# Altium schematic symbol library POT.SCHLIB: 45 symbols
Pins are listed as number, name and electrical type; pins without a type are passive.

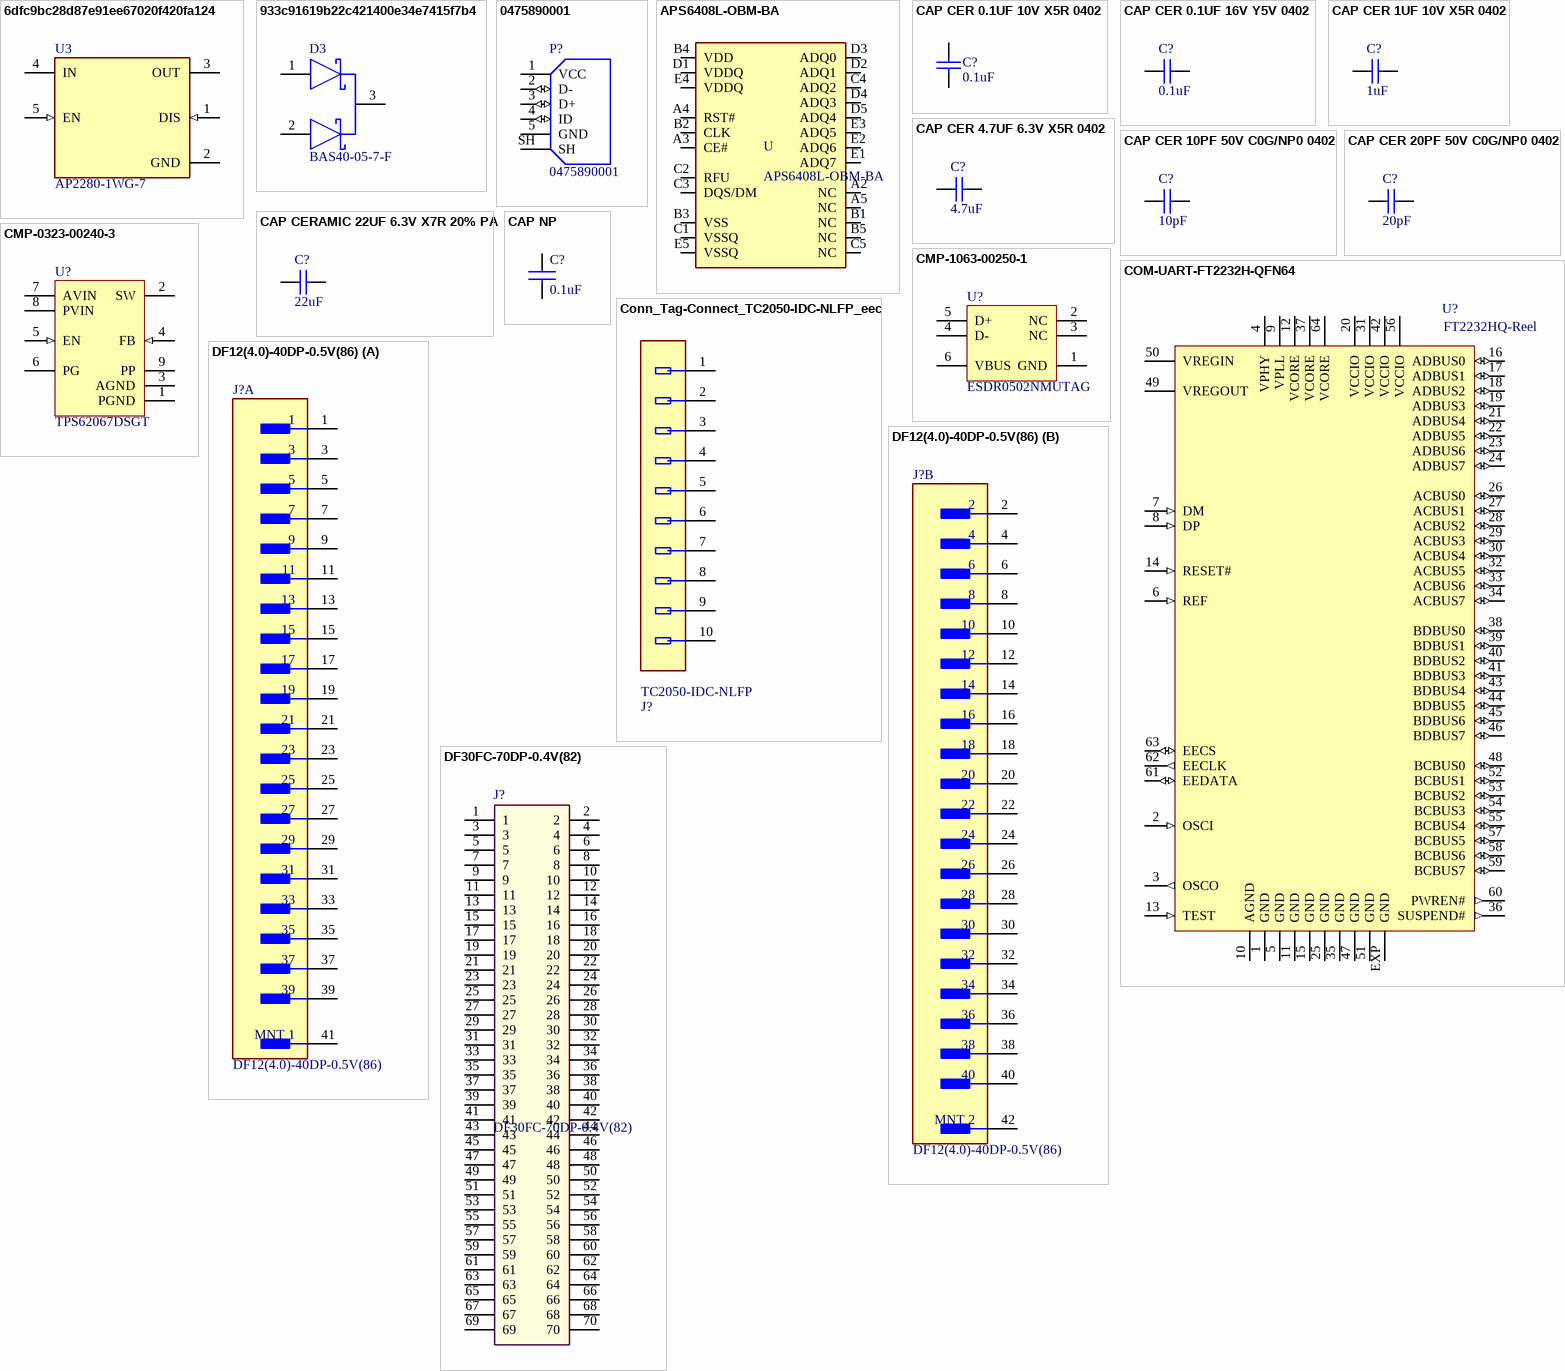
[diagram p0: symbols 6dfc9bc28d87e91ee67020f420fa124 to DF30FC-70DP-0.4V(82)]

## 6dfc9bc28d87e91ee67020f420fa124
designator U3, comment AP2280-1WG-7
IC PWR SWITCH P-CHAN 1:1 SOT25; Manufacturer: Diodes Inc.; Turn On Delay Time: 1us; Max Supply Voltage: 6V; Standoff Height: 0.013mm; Nominal Supply Current: 0.004uA; Min Supply Voltage: 1.5V; Number Of Outputs: 1; Max Junction Temp: +125°C; Turn Off Delay Time: 0.4us; On State Resistance: 80mΩ; Output Current: 2A; Max Power Dissipation: 750mW; Package: SOT25; Ambient Temperature Range Low: -40°C; Automotive: No; Temperature Range High: +85°C; Temperature Range Low: -40°C; Digikey Description: IC PWR SWITCH P-CHAN 1:1 SOT25; Ambient Temperature Range High: +85°C; Device Class L1: Integrated Circuits (ICs); ComponentLink2URL: https://www.diodes.com/assets/Datasheets/AP2280.pdf; Device Class L3: Hot Swap Controllers; Height: 1.4mm; Octopart: https://octopart.com/ap2280-1wg-7-diodes+inc.-12945742; ComponentLink2Description: Datasheet; Manufacturer Part Number: AP2280-1WG-7; Category: IC; Mouser Description: Power Switch ICs - Power Distribution Programmable Load Switch 1.5V - 6V; Temperature: -40°C to +85°C; RoHS: TRUE; Footprint Url: https://www.diodes.com/assets/Package-Files/SOT25.pdf; Device Class L2: Power Management ICs; Number Of Channels: 1; Lead Free: Yes
footprint FP-SOT25-MFG
footprint FP-SOT25-IPC_C
footprint FP-SOT25-IPC_B
footprint FP-SOT25-IPC_A
pins: 1 DIS (in), 2 GND (power), 3 OUT (power), 4 IN (power), 5 EN (in)

## 933c91619b22c421400e34e7415f7b4
designator D3, comment BAS40-05-7-F
DIODE ARRAY SCHOTTKY 40V SOT23-3; Manufacturer: Diodes Inc.; Max Surge Forward Current: 600mA; Max Junction Temp: +125°C; Capacitance: 4pF; Forward Current: 200mA; Peak Reverse Current: 0.02uA; Standoff Height: 0.013mm; Value: 4pF; Manufacturer Part Number: BAS40-05-7-F; Height: 1.1mm; Digikey Description: DIODE ARRAY SCHOTTKY 40V SOT23-3; Device Class L1: Discrete Semiconductors; Automotive: No; Temperature Range High: +125°C; Footprint Url: https://www.diodes.com/assets/Package-Files/SOT23.pdf; Device Class L3: Schottky Diodes; Category: Diode; Reverse Voltage: 40V; Temperature Range Low: -55°C; Mouser Description: Schottky Diodes & Rectifiers 40V 350mW; Max Repetitive Reverse Voltage: 40V; ComponentLink2Description: Datasheet; Temperature: -55°C to +125°C; ComponentLink2URL: https://www.diodes.com/assets/Datasheets/ds11006.pdf; RoHS: TRUE; Lead Free: Yes; Package: SOT23; Octopart: https://octopart.com/bas40-05-7-f-diodes+inc.-325986; Device Class L2: Diodes
footprint SOT-23
footprint FP-SOT23-IPC_C
footprint FP-SOT23-IPC_B
footprint FP-SOT23-IPC_A
pins: 1 1 ANODE, 2 2 ANODE, 3 COMMON CATHODE

## 0475890001
designator P?
Conn Micro USB Type AB RCP 5 POS 0.65mm Solder RA SMD 5 Terminal 1 Port T/R; Manufacturer: Molex; Part #: S-CONN-009; ManType: 0475890001; Availability: Unavailable
footprint *MOLEX_0475890001
footprint *MOLEX_0475890001
pins: 1 VCC (power), 2 D- (io), 3 D+ (io), 4 ID (io), 5 GND (power), SH (power)

## APS6408L-OBM-BA
designator U
Double-Data-Rate Octal SPI PSRAM; Manufacturer: APMEMORY; Value: APS6408L-OBM-BA; Manufacturer Part Number: APS6408L-OBM-BA
footprint BGA24C100P5X5_800X600X120N
pins: A2 NC, A3 CE#, A4 RST#, A5 NC, B1 NC, B2 CLK, B3 VSS, B4 VDD, B5 NC, C1 VSSQ, C2 RFU, C3 DQS/DM, C4 ADQ2, C5 NC, D1 VDDQ, D2 ADQ1, D3 ADQ0, D4 ADQ3, D5 ADQ4, E1 ADQ7, E2 ADQ6, E3 ADQ5, E4 VDDQ, E5 VSSQ

## CAP CER 0.1UF 10V X5R 0402
designator C?, comment 0.1uF
CAP CER 0.1UF 10V X5R 0402; Manufacturer Part Number: GRM155R61A104KA01J; Manufacturer: Murata Electronics; Part #: E-CAP-003; Supplier Part Number 1: 490-6297-1-ND; Package: 0402; Supplier 1: Digi-Key; Height: 0.55mm; value: 0.1uF
footprint C0402
footprint CAPC1005X55USR (Capacitor, Chip; 1.00 mm L X 0.50 mm W X 0.55 mm H body)
pins: 1, 2

## CAP CER 0.1UF 16V Y5V 0402
designator C?, comment 0.1uF
CAP CER 0.1UF 16V Y5V 0402; Manufacturer Part Number: CL05F104ZO5NNNC; Manufacturer: Samsung Electro-Mechanics; Part #: E-CAP-042; Supplier Part Number 1: 1276-1004-1-ND; Package: 0402; Height: 0.55mm; Supplier 1: Digi-Key; value: 0.1uF
footprint C0402
footprint CAPC1005X55USR (Capacitor, Chip; 1.00 mm L X 0.50 mm W X 0.55 mm H body)
footprint CAPC1005X55USR (Capacitor, Chip; 1.00 mm L X 0.50 mm W X 0.55 mm H body)
pins: 1, 2

## CAP CER 1UF 10V X5R 0402
designator C?, comment 1uF
CAP CER 1UF 10V X5R 0402; Manufacturer Part Number: CL05A105MP5NNNC; Manufacturer: Samsung Electro-Mechanics; Part #: E-CAP-042; Supplier Part Number 1: 1276-1448-1-ND; Package: 0402; value: 1uF; Supplier 1: Digi-Key; Height: 0.55mm; ComponentLink1Description: New link; ComponentLink1URL: *
footprint CAPC1005X55USR (Capacitor, Chip; 1.00 mm L X 0.50 mm W X 0.55 mm H body)
footprint CAPC100X50X60L25N
footprint CAPC1005X55USR (Capacitor, Chip; 1.00 mm L X 0.50 mm W X 0.55 mm H body)
pins: 1, 2

## CAP CER 4.7UF 6.3V X5R 0402
designator C?, comment 4.7uF
CAP CER 4.7UF 6.3V X5R 0402; Manufacturer Part Number: CL05A475KQ5NRNC; Manufacturer: Samsung Electro-Mechanics; Part #: E-CAP-042; Supplier Part Number 1: 1276-1481-1-ND; Package: 0402; value: 4.7uF; Supplier 1: Digi-Key; Height: 0.55mm; ComponentLink1Description: New link; ComponentLink1URL: *
footprint CAPC1005X55USR (Capacitor, Chip; 1.00 mm L X 0.50 mm W X 0.55 mm H body)
footprint CAPC100X50X60L25N
pins: 1, 2

## CAP CER 10PF 50V C0G/NP0 0402
designator C?, comment 10pF
CAP CER 10PF 50V C0G/NP0 0402; Manufacturer Part Number: GRM1555C1H100JA01D; Manufacturer: Murata Electronics; Part #: E-CAP-042; Supplier Part Number 1: 490-5921-1-ND; Package: 0402; Height: 0.55mm; Supplier 1: Digi-Key; value: 10pF
footprint C0402
footprint CAPC1005X55USR (Capacitor, Chip; 1.00 mm L X 0.50 mm W X 0.55 mm H body)
footprint CAPC1005X55USR (Capacitor, Chip; 1.00 mm L X 0.50 mm W X 0.55 mm H body)
pins: 1, 2

## CAP CER 20PF 50V C0G/NP0 0402
designator C?, comment 20pF
CAP CER 20PF 50V C0G/NP0 0402; Manufacturer Part Number: GRM1555C1H200JA01D; Manufacturer: Murata Electronics; Part #: E-CAP-042; Supplier Part Number 1: 490-5930-1-ND; Package: 0402; Height: 0.55mm; Supplier 1: Digi-Key; value: 20pF
footprint CAPC1005X55USR (Capacitor, Chip; 1.00 mm L X 0.50 mm W X 0.55 mm H body)
pins: 1, 2

## CAP CERAMIC 22UF 6.3V X7R 20% PA
designator C?, comment 22uF
CAP CERAMIC 22UF 6.3V X7R 20% PA; Manufacturer Part Number: GRM188R60G226M; Manufacturer: Murata Electronics; Package: 0603; value: 22uF; Supplier 1: Digi-Key; Height: 0.55mm; ComponentLink1Description: New link; ComponentLink1URL: *
footprint CAPC1005X55USR (Capacitor, Chip; 1.00 mm L X 0.50 mm W X 0.55 mm H body)
footprint CAPC100X50X60L25N
footprint CAPC1005X55USR (Capacitor, Chip; 1.00 mm L X 0.50 mm W X 0.55 mm H body)
pins: 1, 2

## CAP NP
designator C?, comment 0.1uF
CAP CER 0.1UF 6.3V X5R
footprint CAPC1608N
footprint CAPC1005N
footprint CAPC1005X60N
footprint C0603
pins: 1, 2

## CMP-0323-00240-3
designator U?, comment TPS62067DSGT
Buck Step Down Regulator with 2.9 to 6 V Input and 0.8 to 6 V Output, -40 to 85 degC, 8-Pin WSON (DSG), Green (RoHS & no Sb/Br); Manufacturer: Texas Instruments; Vout(Max)(V): 6; Synchronous Rectification: TRUE; Duty Cycle(Max)(%): 100; Iout(Max)(A): 2; Iq(Typ)(mA): 0.018; Switch Current Limit(Typ)(A): 2.75; SubFamily: Step-Down Regulator; Vin(Min)(V): 2.9; Vout(Min)(V): 0.8; Rating: Catalog; Regulated Outputs(#): 1; ComponentLink3Description: URL Link1; Eco-Plan: Green (RoHS & no Sb/Br); Topology: Buck; PackageVersion: revB, Oct-2010; PartNumber: TPS62067DSGT; ComponentLink1URL: http://www.ti.com/general/docs/lit/getliterature.tsp?genericPartNumber=TPS62067&fileType=pdf; ComponentLink3URL: Samples URL:http://www.ti.com/product/tps62067#samples; PackageDescription: 8-Pin Plastic Small Outline No-Lead, 2 x 2 x 0.8 mm Body, 0.5 mm Pitch, Exposed Pad; ComponentLink2URL: http://www.ti.com/litv/pdf/mpds308a; PackageReference: DSG0008A; ComponentLink2Description: Package Specification; ComponentLink1Description: Datasheet; Vin(Max)(V): 6; Code_JEDEC: MO-229; Mounting Technology: Surface Mount; DatasheetVersion: SLVS833A
footprint DSG0008A_V (SON, 8-Leads, Body 2x2mm, Pitch 0.5mm, Thermal Pad 1.6x0.9mm, TI Recommended)
pins: 1 PGND (power) "GND supply pin for the output stage.", 2 SW (power) "This is the switch pin and is connected to the internal MOSFET switches. Connect the external inductor between this terminal and the output capacitor.", 3 AGND (power) "Analog GND supply pin for the control circuit.", 4 FB (in) "Feedback pin for the internal regulation loop. Connect the external resistor divider to this pin. In case of fixed output voltage option, connect this pin directly to the output capacitor", 5 EN (in) "This is the enable pin of the device. Pulling this pin to low forces the device into shutdown mode. Pulling this pin to high enables the device. This pin must be terminated", 6 PG (oc) "MODE: MODE pin = high forces the device to operate in fixed frequency PWM mode. MODE pin = low enables the Power Save Mode with automatic transition from PFM mode to fixed frequency PWM mode. This pin must be terminated.", 7 AVIN (power) "Analog VIN power supply for the control circuit. Need to be connected to PVIN and input capacitor.", 8 PVIN (power) "VIN power supply pin for the output stage.", 9 PP (power) "For good thermal performance, this PAD must be soldered to the land pattern on the pcb. This PAD should be used as device GND."

## CMP-1063-00250-1
designator U?, comment ESDR0502NMUTAG
Ultra Low Capacitance ESD Protection Array for High Speed Data Line Protection, 6-Pin UDFN, Pb-Free, Tape and Reel; Manufacturer: On Semiconductor; C Max (pF): 0.6; PPK Max (W): 100; V(BR) Min (V): 6; IR Max (uA): 1; Number of Lines: 4; VRWM Max (V): 5.5; Direction: Unidirectional; ComponentLink2URL: http://www.onsemi.cn/pub_link/Collateral/ESDR0502N-D.PDF; PackageDescription: 6-Pin Small Outline No-Lead, Body 1.2 x 1 mm, Pitch 0.4 mm; DatasheetVersion: Rev. 4; Packing: Tape and Reel; ComponentLink3URL: http://www.onsemi.com/pub_link/Collateral/517AA.PDF; PackageReference: UDFN-6-517AA-01; ComponentLink1Description: Manufacturer URL; ComponentLink2Description: Datasheet; ComponentLink3Description: Package Specification; PackageVersion: Rev. D, 09/2010; ComponentLink1URL: http://www.onsemi.com/; PartNumber: ESDR0502NMUTAG; RoHS: Pb-Free; Mounting Technology: Surface Mount
footprint ONSC-UDFN-6-517AA-01_V (SON, 6-Leads, Body 1.2x1mm, Pitch 0.4mm)
pins: 1 GND (power), 2 NC, 3 NC, 4 D-, 5 D+, 6 VBUS (power)

## COM-UART-FT2232H-QFN64
designator U?, comment FT2232HQ-Reel
Dual High Speed USB To Multipurpose UART/FIFO IC, 64-pin QFN, Tape and Reel; Manufacturer: FTDI; ComponentLink2Description: Datasheet; RevisionNote: DatasheetVersion updated to 2.21 Jun-2012; ComponentLink2URL: http://www.ftdichip.com/Support/Documents/DataSheets/ICs/DS_FT2232H.pdf; PackageReference: QFN64_2; ComponentLink1Description: Manufacturer URL; PackageDescription: 64-Pin Quad Flat No-Lead, 9 x 9 mm Body, 0.5 mm Pitch, 4.35 x 4.35 mm Exposed Pad; PackageVersion: Jun-12; DatasheetVersion: ver 2.21, Jun-2012; PartNumber: FT2232HQ-Reel; ComponentLink1URL: http://www.ftdichip.com/
footprint QFN64_2_N (QFN, 64-Leads, Body 9x9mm, Pitch 0.5mm, Thermal Pad 4.5x4.5mm, IPC Medium Density)
footprint QFN64_2_M (QFN, 64-Leads, Body 9x9mm, Pitch 0.5mm, Thermal Pad 4.5x4.5mm, IPC Low Density)
footprint QFN64_2_L (QFN, 64-Leads, Body 9x9mm, Pitch 0.5mm, Thermal Pad 4.5x4.5mm, IPC High Density)
footprint QFN64-9X9_EXP (64-QFN, 9 mm x 9 mm, 0.5 mm pitch)
footprint QFN64-9X9_EXP (64-QFN, 9 mm x 9 mm, 0.5 mm pitch)
footprint QFN64-9X9_EXP-1 (64-QFN, 9 mm x 9 mm, 0.5 mm pitch)
pins: 1 GND (power), 2 OSCI (in), 3 OSCO (out), 4 VPHY (power), 5 GND (power), 6 REF (in), 7 DM (in), 8 DP (in), 9 VPLL (power), 10 AGND (power), 11 GND (power), 12 VCORE (power), 13 TEST (in), 14 RESET# (in), 15 GND (power), 16 ADBUS0 (io), 17 ADBUS1 (io), 18 ADBUS2 (io), 19 ADBUS3 (io), 20 VCCIO (power), 21 ADBUS4 (io), 22 ADBUS5 (io), 23 ADBUS6 (io), 24 ADBUS7 (io), 25 GND (power), 26 ACBUS0 (io), 27 ACBUS1 (io), 28 ACBUS2 (io), 29 ACBUS3 (io), 30 ACBUS4 (io), 31 VCCIO (power), 32 ACBUS5 (io), 33 ACBUS6 (io), 34 ACBUS7 (io), 35 GND (power), 36 SUSPEND# (out), 37 VCORE (power), 38 BDBUS0 (io), 39 BDBUS1 (io), 40 BDBUS2 (io), 41 BDBUS3 (io), 42 VCCIO (power), 43 BDBUS4 (io), 44 BDBUS5 (io), 45 BDBUS6 (io), 46 BDBUS7 (io), 47 GND (power), 48 BCBUS0 (io), 49 VREGOUT (power), 50 VREGIN (power), 51 GND (power), 52 BCBUS1 (io), 53 BCBUS2 (io), 54 BCBUS3 (io), 55 BCBUS4 (io), 56 VCCIO (power), 57 BCBUS5 (io), 58 BCBUS6 (io), 59 BCBUS7 (io), 60 PWREN# (out), 61 EEDATA (io), 62 EECLK (out), 63 EECS (io), 64 VCORE (power), EXP GND (power)

## Conn_Tag-Connect_TC2050-IDC-NLFP_eec
designator J?  Part Number: TC2050-IDC-NLFP
CONN CBL PLUG-OF-NAILS 10-PIN; Manufacturer: Tag-Connect; helpURL: https://upverter.com/upn/revision/c59a8fc979a72537/; ComponentLink2Description: Datasheet; Temperature: to; Package: CONN_SMT_12MM446_6MM731; Supplier 2: Mouser; Supplier 1: Digi-Key; ComponentLink1URL: https://upverter.com/upn/revision/c59a8fc979a72537/; Supplier Part Number 1: TC2050-IDC-NL-ND; ComponentLink1Description: Upverter; ComponentLink2URL: http://www.tag-connect.com/Materials/TC2050-IDC-NL%20Datasheet.pdf; RoHS: TRUE; Digikey Description: CONN CBL PLUG-OF-NAILS 10-PIN; Digikey Part Number: TC2050-IDC-NL-ND; Lead Free: yes
footprint Tag-Connect_TC2050-IDC-NLFP_0
pins: 1, 2, 3, 4, 5, 6, 7, 8, 9, 10

## DF12(4.0)-40DP-0.5V(86)
designator J?
CONN HDR 40POS SMD GOLD; Gender: Male; Mated Stacking Heights: 4mm; Max Voltage Rating (AC): 50V; Row Spacing: 2.45mm; Number of Positions: 40; Current Rating: 300mA; Contact Resistance: 50mR; Pitch: 0.5mm; Package Quantity: 1; Housing Material: Polyamide; Lead Free: Lead Free; Packaging: Tape and Reel; Radiation Hardening: No; Orientation: Straight; Insulation Material: Nylon; Contact Material: Copper; Stack Height: 4mm; Max Operating Temperature: 125°C; Voltage Rating: 50V; Length: 13mm; Min Operating Temperature: -45°C; Mount: Surface Mount; Number of Rows: 2; Depth: 3.8mm; Contact Plating: Gold; Housing Color: Beige; REACH SVHC: No SVHC; Termination: Solder; Max Current Rating: 300mA; Number of Contacts: 40; Flammability Rating: UL94 V-0
footprint DF124040DP05V86
part A pins: 1, 3, 5, 7, 9, 11, 13, 15, 17, 19, 21, 23, 25, 27, 29, 31, 33, 35, 37, 39, 41 MNT 1
part B pins: 2, 4, 6, 8, 10, 12, 14, 16, 18, 20, 22, 24, 26, 28, 30, 32, 34, 36, 38, 40, 42 MNT 2

## DF30FC-70DP-0.4V(82)
designator J?
CONN HDR 70POS SMD GOLD; Manufacturer: Hirose Electric Co Ltd; Geometry.Height: 0.8mm; Manufacturer Part Number: DF30FC-70DP-0.4V(82); Digi-Key Part Number: DF30FC-70DP-0.4V(82)-ND; Mouser Price/Stock: https://www.mouser.com/Search/Refine.aspx?Keyword=798-DF30FC40DP0.4V82; Arrow Part Number: *; Arrow Price/Stock: *; Datasheet Link: https://eu.mouser.com/datasheet/2/185/e68410340-1168193.pdf
footprint DF30FC70DP04V82
pins: 1, 2, 3, 4, 5, 6, 7, 8, 9, 10, 11, 12, 13, 14, 15, 16, 17, 18, 19, 20, 21, 22, 23, 24, 25, 26, 27, 28, 29, 30, 31, 32, 33, 34, 35, 36, 37, 38, 39, 40, 41, 42, 43, 44, 45, 46, 47, 48, 49, 50, 51, 52, 53, 54, 55, 56, 57, 58, 59, 60, 61, 62, 63, 64, 65, 66, 67, 68, 69, 70

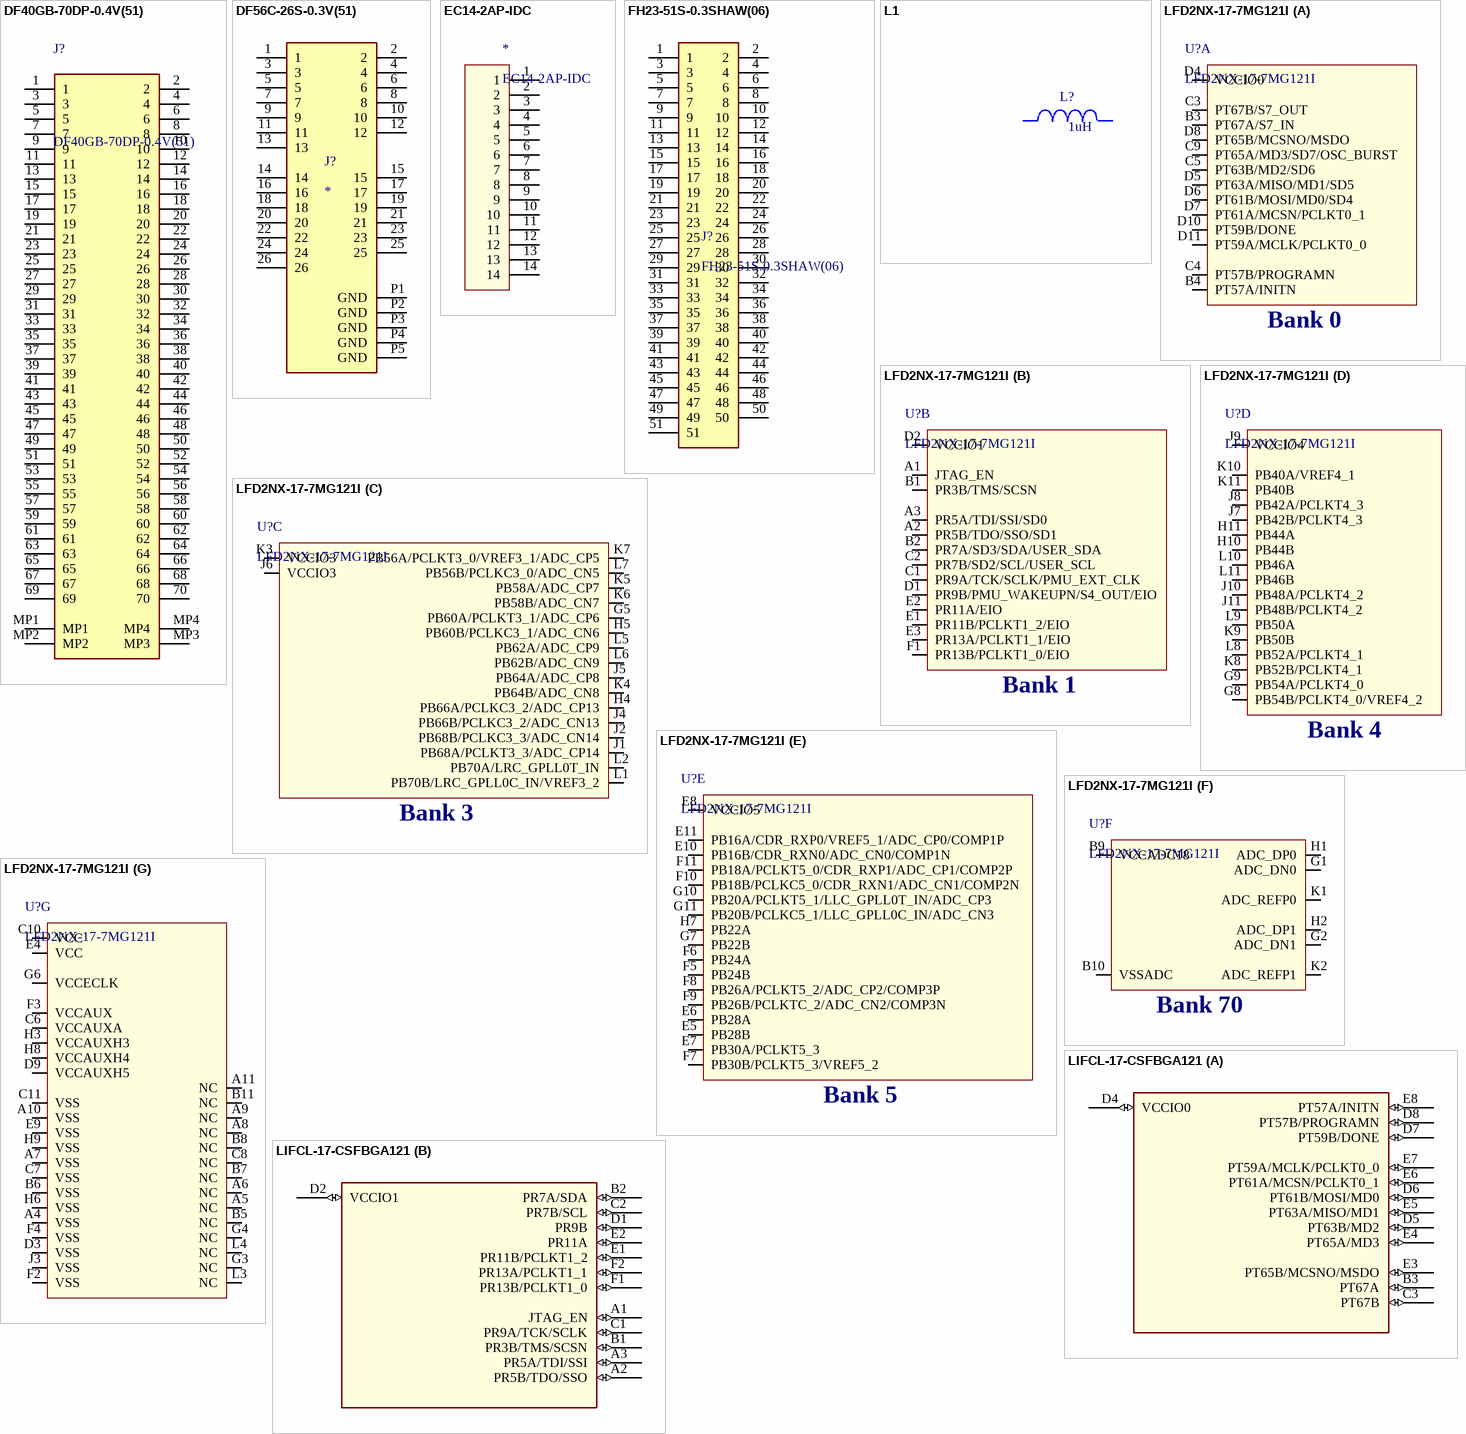
[diagram p1: symbols DF40GB-70DP-0.4V(51) to LIFCL-17-CSFBGA121]

## DF40GB-70DP-0.4V(51)
designator J?
Board to Board & Mezzanine Connectors 70P Hdr w/metal ftg use w/shlded product; Manufacturer: Hirose; Connector Type: Plug; Number of Positions: 70; Mated Stacking Heights: 3mm; Supplier: Digikey; Supplier Part Number: 26-DF40GB-70DP-0.4V(51)CT-ND; Manufacturer Part Number: DF40GB-70DP-0.4V(51); RoHS: Yes; Category: Connectors; Stock: 3322; Pricing: 1=2.07, 10=1.804, 25=1.7272, 50=1.6888, 100=1.612, 250=1.45844, 500=1.3433, 1000=1.1514, 2500=1.07464 (USD); Mounting Technology: Surface Mount; Pins: 70; Contact Plating: Gold; Packaging: Tape and Reel; Number of Rows: 2; Features: Shielded; Series: DF40; RoHS Compliant: Yes; ComponentLink1URL: https://www.hirose.com/product/download/?distributor=digikey&amp;type=specSheet&amp;lang=en&amp;num=DF40GB-70DP-0.4V(51)&src-supplier=Digikey; ComponentLink1Description: https://www.hirose.com/product/download/?distributor=digikey&amp;type=specSheet&amp;lang=en&amp;num=DF40GB-70DP-0.4V(51)&src-supplier=Digikey; ComponentLink2URL: https://datasheet.octopart.com/DF40GB-70DP-0.4V%2851%29-Hirose-datasheet-155958321.pdf?src-supplier=Sager+Electronics; ComponentLink2Description: https://datasheet.octopart.com/DF40GB-70DP-0.4V%2851%29-Hirose-datasheet-155958321.pdf?src-supplier=Sager+Electronics
footprint DF40GB70DP04V51
pins: 1, 2, 3, 4, 5, 6, 7, 8, 9, 10, 11, 12, 13, 14, 15, 16, 17, 18, 19, 20, 21, 22, 23, 24, 25, 26, 27, 28, 29, 30, 31, 32, 33, 34, 35, 36, 37, 38, 39, 40, 41, 42, 43, 44, 45, 46, 47, 48, 49, 50, 51, 52, 53, 54, 55, 56, 57, 58, 59, 60, 61, 62, 63, 64, 65, 66, 67, 68, 69, 70, MP1, MP2, MP3, MP4

## DF56C-26S-0.3V(51)
designator J?
CONN RCPT 26POS 0.012 GOLD SMD; Manufacturer: Hirose Electric Co Ltd; Manufacturer Part Number: DF56C-26S-0.3V(51); Package: None; Digi-Key Part Number: DF56C-26S-0.3V(51)-ND; Availability: Unavailable
footprint DF56C-26S-0.3V(51)
pins: 1, 2, 3, 4, 5, 6, 7, 8, 9, 10, 11, 12, 13, 14, 15, 16, 17, 18, 19, 20, 21, 22, 23, 24, 25, 26, P1 GND (power), P2 GND (power), P3 GND (power), P4 GND (power), P5 GND (power)

## EC14-2AP-IDC
designator *
Manufacturer: TAG-CONNECT; Manufacturer Part Number: EC14-2AP-IDC
footprint EC14-2AP
pins: 1, 2, 3, 4, 5, 6, 7, 8, 9, 10, 11, 12, 13, 14

## FH23-51S-0.3SHAW(06)
designator J?
CONN FPC BOTTOM 51POS 0.30MM R/A; Manufacturer: Hirose Electric Co Ltd; Value: FH23-51S-0.3SHAW(06); Manufacturer Product Number: FH23-51S-0.3SHAW(06); Package: None; Price: None; Digi-Key Part Number: HFQ551TR-ND; Availability: Unavailable
footprint HRS_FH23-51S-0.3SHAW(06)
pins: 1, 2, 3, 4, 5, 6, 7, 8, 9, 10, 11, 12, 13, 14, 15, 16, 17, 18, 19, 20, 21, 22, 23, 24, 25, 26, 27, 28, 29, 30, 31, 32, 33, 34, 35, 36, 37, 38, 39, 40, 41, 42, 43, 44, 45, 46, 47, 48, 49, 50, 51

## L1
designator L?, comment 1uH
LQM32PN; Manufacturer: Murata; Manufacturer Part Number: LQM32PN; Value: 1uH; Supplier 1: Mouser
footprint XFL4015
pins: 1, 2

## LFD2NX-17-7MG121I
designator U?
Low-power general purpose FPGA, CSFBGA121; Manufacturer: Lattice Semiconductor; Manufacturer Part Number: LFD2NX-17-7MG121I
part A pins: B3 PT67A/S7_IN, B4 PT57A/INITN, C3 PT67B/S7_OUT, C4 PT57B/PROGRAMN, C5 PT63B/MD2/SD6, C9 PT65A/MD3/SD7/OSC_BURST, D4 VCCIO0, D5 PT63A/MISO/MD1/SD5, D6 PT61B/MOSI/MD0/SD4, D7 PT61A/MCSN/PCLKT0_1, D8 PT65B/MCSNO/MSDO, D10 PT59B/DONE, D11 PT59A/MCLK/PCLKT0_0
part B pins: A1 JTAG_EN, A2 PR5B/TDO/SSO/SD1, A3 PR5A/TDI/SSI/SD0, B1 PR3B/TMS/SCSN, B2 PR7A/SD3/SDA/USER_SDA, C1 PR9A/TCK/SCLK/PMU_EXT_CLK, C2 PR7B/SD2/SCL/USER_SCL, D1 PR9B/PMU_WAKEUPN/S4_OUT/EIO, D2 VCCIO1, E1 PR11B/PCLKT1_2/EIO, E2 PR11A/EIO, E3 PR13A/PCLKT1_1/EIO, F1 PR13B/PCLKT1_0/EIO
part C pins: G5 PB60A/PCLKT3_1/ADC_CP6, H4 PB66A/PCLKC3_2/ADC_CP13, H5 PB60B/PCLKC3_1/ADC_CN6, J1 PB68A/PCLKT3_3/ADC_CP14, J2 PB68B/PCLKC3_3/ADC_CN14, J4 PB66B/PCLKC3_2/ADC_CN13, J5 PB64A/ADC_CP8, J6 VCCIO3, K3 VCCIO3, K4 PB64B/ADC_CN8, K5 PB58A/ADC_CP7, K6 PB58B/ADC_CN7, K7 PB56A/PCLKT3_0/VREF3_1/ADC_CP5, L1 PB70B/LRC_GPLL0C_IN/VREF3_2, L2 PB70A/LRC_GPLL0T_IN, L5 PB62A/ADC_CP9, L6 PB62B/ADC_CN9, L7 PB56B/PCLKC3_0/ADC_CN5
part D pins: G8 PB54B/PCLKT4_0/VREF4_2, G9 PB54A/PCLKT4_0, H10 PB44B, H11 PB44A, J7 PB42B/PCLKT4_3, J8 PB42A/PCLKT4_3, J9 VCCIO4, J10 PB48A/PCLKT4_2, J11 PB48B/PCLKT4_2, K8 PB52B/PCLKT4_1, K9 PB50B, K10 PB40A/VREF4_1, K11 PB40B, L8 PB52A/PCLKT4_1, L9 PB50A, L10 PB46A, L11 PB46B
part E pins: E5 PB28B, E6 PB28A, E7 PB30A/PCLKT5_3, E8 VCCIO5, E10 PB16B/CDR_RXN0/ADC_CN0/COMP1N, E11 PB16A/CDR_RXP0/VREF5_1/ADC_CP0/COMP1P, F5 PB24B, F6 PB24A, F7 PB30B/PCLKT5_3/VREF5_2, F8 PB26A/PCLKT5_2/ADC_CP2/COMP3P, F9 PB26B/PCLKTC_2/ADC_CN2/COMP3N, F10 PB18B/PCLKC5_0/CDR_RXN1/ADC_CN1/COMP2N, F11 PB18A/PCLKT5_0/CDR_RXP1/ADC_CP1/COMP2P, G7 PB22B, G10 PB20A/PCLKT5_1/LLC_GPLL0T_IN/ADC_CP3, G11 PB20B/PCLKC5_1/LLC_GPLL0C_IN/ADC_CN3, H7 PB22A
part F pins: B9 VCCADC18, B10 VSSADC, G1 ADC_DN0, G2 ADC_DN1, H1 ADC_DP0, H2 ADC_DP1, K1 ADC_REFP0, K2 ADC_REFP1
part G pins: A4 VSS, A5 NC, A6 NC, A7 VSS, A8 NC, A9 NC, A10 VSS, A11 NC, B5 NC, B6 VSS, B7 NC, B8 NC, B11 NC, C6 VCCAUXA, C7 VSS, C8 NC, C10 VCC, C11 VSS, D3 VSS, D9 VCCAUXH5, E4 VCC, E9 VSS, F2 VSS, F3 VCCAUX, F4 VSS, G3 NC, G4 NC, G6 VCCECLK, H3 VCCAUXH3, H6 VSS, H8 VCCAUXH4, H9 VSS, J3 VSS, L3 NC, L4 NC
part A text: Bank 0
part B text: Bank 1
part C text: Bank 3
part D text: Bank 4
part E text: Bank 5
part F text: Bank 70

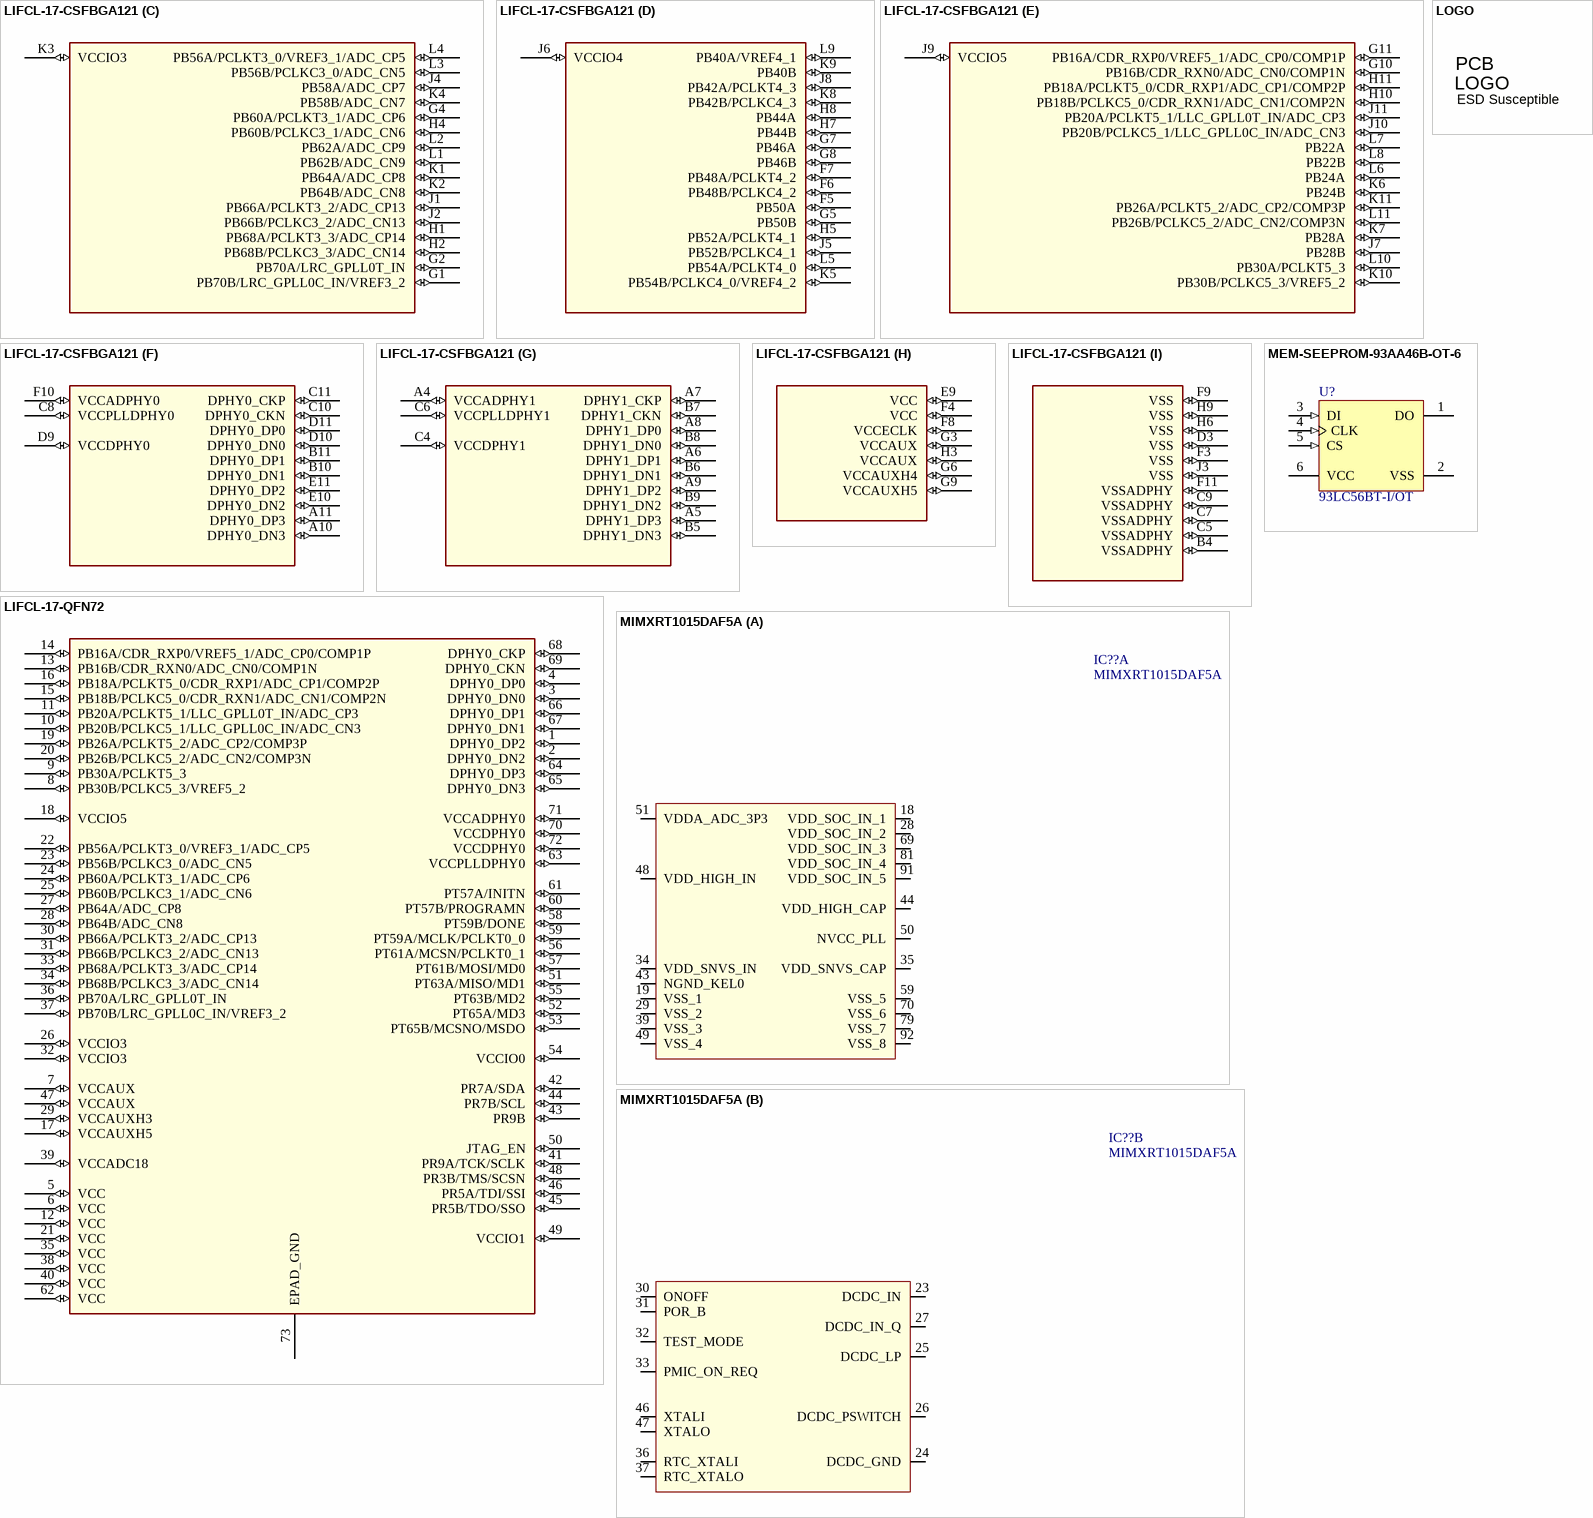
[diagram p2: symbols LIFCL-17-CSFBGA121 to MIMXRT1015DAF5A]

## LIFCL-17-CSFBGA121
designator U?
SPLIT_INST: TRUE; SWAP_INFO: (S1+S2+S3+S4+S5+S6+S7+S8+S9)
footprint BGA121C50P11X11_600X600X100
part A pins: B3 PT67A (io), C3 PT67B (io), D4 VCCIO0 (io), D5 PT63B/MD2 (io), D6 PT61B/MOSI/MD0 (io), D7 PT59B/DONE (io), D8 PT57B/PROGRAMN (io), E3 PT65B/MCSNO/MSDO (io), E4 PT65A/MD3 (io), E5 PT63A/MISO/MD1 (io), E6 PT61A/MCSN/PCLKT0_1 (io), E7 PT59A/MCLK/PCLKT0_0 (io), E8 PT57A/INITN (io)
part B pins: A1 JTAG_EN (io), A2 PR5B/TDO/SSO (io), A3 PR5A/TDI/SSI (io), B1 PR3B/TMS/SCSN (io), B2 PR7A/SDA (io), C1 PR9A/TCK/SCLK (io), C2 PR7B/SCL (io), D1 PR9B (io), D2 VCCIO1 (io), E1 PR11B/PCLKT1_2 (io), E2 PR11A (io), F1 PR13B/PCLKT1_0 (io), F2 PR13A/PCLKT1_1 (io)
part C pins: G1 PB70B/LRC_GPLL0C_IN/VREF3_2 (io), G2 PB70A/LRC_GPLL0T_IN (io), G4 PB60A/PCLKT3_1/ADC_CP6 (io), H1 PB68A/PCLKT3_3/ADC_CP14 (io), H2 PB68B/PCLKC3_3/ADC_CN14 (io), H4 PB60B/PCLKC3_1/ADC_CN6 (io), J1 PB66A/PCLKT3_2/ADC_CP13 (io), J2 PB66B/PCLKC3_2/ADC_CN13 (io), J4 PB58A/ADC_CP7 (io), K1 PB64A/ADC_CP8 (io), K2 PB64B/ADC_CN8 (io), K3 VCCIO3 (io), K4 PB58B/ADC_CN7 (io), L1 PB62B/ADC_CN9 (io), L2 PB62A/ADC_CP9 (io), L3 PB56B/PCLKC3_0/ADC_CN5 (io), L4 PB56A/PCLKT3_0/VREF3_1/ADC_CP5 (io)
part D pins: F5 PB50A (io), F6 PB48B/PCLKC4_2 (io), F7 PB48A/PCLKT4_2 (io), G5 PB50B (io), G7 PB46A (io), G8 PB46B (io), H5 PB52A/PCLKT4_1 (io), H7 PB44B (io), H8 PB44A (io), J5 PB52B/PCLKC4_1 (io), J6 VCCIO4 (io), J8 PB42A/PCLKT4_3 (io), K5 PB54B/PCLKC4_0/VREF4_2 (io), K8 PB42B/PCLKC4_3 (io), K9 PB40B (io), L5 PB54A/PCLKT4_0 (io), L9 PB40A/VREF4_1 (io)
part E pins: G10 PB16B/CDR_RXN0/ADC_CN0/COMP1N (io), G11 PB16A/CDR_RXP0/VREF5_1/ADC_CP0/COMP1P (io), H10 PB18B/PCLKC5_0/CDR_RXN1/ADC_CN1/COMP2N (io), H11 PB18A/PCLKT5_0/CDR_RXP1/ADC_CP1/COMP2P (io), J7 PB28B (io), J9 VCCIO5 (io), J10 PB20B/PCLKC5_1/LLC_GPLL0C_IN/ADC_CN3 (io), J11 PB20A/PCLKT5_1/LLC_GPLL0T_IN/ADC_CP3 (io), K6 PB24B (io), K7 PB28A (io), K10 PB30B/PCLKC5_3/VREF5_2 (io), K11 PB26A/PCLKT5_2/ADC_CP2/COMP3P (io), L6 PB24A (io), L7 PB22A (io), L8 PB22B (io), L10 PB30A/PCLKT5_3 (io), L11 PB26B/PCLKC5_2/ADC_CN2/COMP3N (io)
part F pins: A10 DPHY0_DN3 (io), A11 DPHY0_DP3 (io), B10 DPHY0_DN1 (io), B11 DPHY0_DP1 (io), C8 VCCPLLDPHY0 (io), C10 DPHY0_CKN (io), C11 DPHY0_CKP (io), D9 VCCDPHY0 (io), D10 DPHY0_DN0 (io), D11 DPHY0_DP0 (io), E10 DPHY0_DN2 (io), E11 DPHY0_DP2 (io), F10 VCCADPHY0 (io)
part G pins: A4 VCCADPHY1 (io), A5 DPHY1_DP3 (io), A6 DPHY1_DP1 (io), A7 DPHY1_CKP (io), A8 DPHY1_DP0 (io), A9 DPHY1_DP2 (io), B5 DPHY1_DN3 (io), B6 DPHY1_DN1 (io), B7 DPHY1_CKN (io), B8 DPHY1_DN0 (io), B9 DPHY1_DN2 (io), C4 VCCDPHY1 (io), C6 VCCPLLDPHY1 (io)
part H pins: E9 VCC (io), F4 VCC (io), F8 VCCECLK (io), G3 VCCAUX (io), G6 VCCAUXH4 (io), G9 VCCAUXH5 (io), H3 VCCAUX (io)
part I pins: B4 VSSADPHY (io), C5 VSSADPHY (io), C7 VSSADPHY (io), C9 VSSADPHY (io), D3 VSS (io), F3 VSS (io), F9 VSS (io), F11 VSSADPHY (io), H6 VSS (io), H9 VSS (io), J3 VSS (io)

## LIFCL-17-QFN72
designator U?
pins: 1 DPHY0_DP2 (io), 2 DPHY0_DN2 (io), 3 DPHY0_DN0 (io), 4 DPHY0_DP0 (io), 5 VCC (io), 6 VCC (io), 7 VCCAUX (io), 8 PB30B/PCLKC5_3/VREF5_2 (io), 9 PB30A/PCLKT5_3 (io), 10 PB20B/PCLKC5_1/LLC_GPLL0C_IN/ADC_CN3 (io), 11 PB20A/PCLKT5_1/LLC_GPLL0T_IN/ADC_CP3 (io), 12 VCC (io), 13 PB16B/CDR_RXN0/ADC_CN0/COMP1N (io), 14 PB16A/CDR_RXP0/VREF5_1/ADC_CP0/COMP1P (io), 15 PB18B/PCLKC5_0/CDR_RXN1/ADC_CN1/COMP2N (io), 16 PB18A/PCLKT5_0/CDR_RXP1/ADC_CP1/COMP2P (io), 17 VCCAUXH5 (io), 18 VCCIO5 (io), 19 PB26A/PCLKT5_2/ADC_CP2/COMP3P (io), 20 PB26B/PCLKC5_2/ADC_CN2/COMP3N (io), 21 VCC (io), 22 PB56A/PCLKT3_0/VREF3_1/ADC_CP5 (io), 23 PB56B/PCLKC3_0/ADC_CN5 (io), 24 PB60A/PCLKT3_1/ADC_CP6 (io), 25 PB60B/PCLKC3_1/ADC_CN6 (io), 26 VCCIO3 (io), 27 PB64A/ADC_CP8 (io), 28 PB64B/ADC_CN8 (io), 29 VCCAUXH3 (io), 30 PB66A/PCLKT3_2/ADC_CP13 (io), 31 PB66B/PCLKC3_2/ADC_CN13 (io), 32 VCCIO3 (io), 33 PB68A/PCLKT3_3/ADC_CP14 (io), 34 PB68B/PCLKC3_3/ADC_CN14 (io), 35 VCC (io), 36 PB70A/LRC_GPLL0T_IN (io), 37 PB70B/LRC_GPLL0C_IN/VREF3_2 (io), 38 VCC (io), 39 VCCADC18 (io), 40 VCC (io), 41 PR9A/TCK/SCLK (io), 42 PR7A/SDA (io), 43 PR9B (io), 44 PR7B/SCL (io), 45 PR5B/TDO/SSO (io), 46 PR5A/TDI/SSI (io), 47 VCCAUX (io), 48 PR3B/TMS/SCSN (io), 49 VCCIO1 (io), 50 JTAG_EN (io), 51 PT63A/MISO/MD1 (io), 52 PT65A/MD3 (io), 53 PT65B/MCSNO/MSDO (io), 54 VCCIO0 (io), 55 PT63B/MD2 (io), 56 PT61A/MCSN/PCLKT0_1 (io), 57 PT61B/MOSI/MD0 (io), 58 PT59B/DONE (io), 59 PT59A/MCLK/PCLKT0_0 (io), 60 PT57B/PROGRAMN (io), 61 PT57A/INITN (io), 62 VCC (io), 63 VCCPLLDPHY0 (io), 64 DPHY0_DP3 (io), 65 DPHY0_DN3 (io), 66 DPHY0_DP1 (io), 67 DPHY0_DN1 (io), 68 DPHY0_CKP (io), 69 DPHY0_CKN (io), 70 VCCDPHY0 (io), 71 VCCADPHY0 (io), 72 VCCDPHY0 (io), 73 EPAD_GND

## LOGO
designator Logo?, comment ESD Susceptible  (no BOM)
ESD Susceptible Symbol; Library Reference: Logo; SymbolCreator: a0412235; Lib Reference: ESD_Susceptible; Publisher: Texas Instruments; SymbolVersion: 2011-08-22; Published: 2009-03-03; LatestRevisionDate: 2017-07-06; PartNumber: ESD Susceptible
footprint WEEE_Minimum
footprint ESD_Overlay_Medium
text: PCB

## MEM-SEEPROM-93AA46B-OT-6
designator U?, comment 93LC56BT-I/OT
MEM-SEEPROM-93AA46B-OT-6; DatasheetVersion: revF, May-2008; Code_IPC: SOT26A-6; PackageReference: SOT-23-OT6; PackageVersion: revBB, Aug-2009; PackageDescription: 6-Lead Plastic Small Outline Transistor (OT) [SOT-23]
footprint SOT-23-OT6_L (SOT23, 6-Leads, Body 2.9x1.6mm, Pitch 0.95mm, Lead Span 2.7mm, IPC High Density)
footprint SOT-23-OT6_N (SOT23, 6-Leads, Body 2.9x1.6mm, Pitch 0.95mm, Lead Span 2.7mm, IPC Medium Density)
footprint SOT-23-OT6_M (SOT23, 6-Leads, Body 2.9x1.6mm, Pitch 0.95mm, Lead Span 2.7mm, IPC Low Density)
footprint SOT-23-OT6_L (SOT23, 6-Leads, Body 2.9x1.7mm, Pitch 0.95mm, Lead Span 2.8mm, IPC High Density)
pins: 1 DO (hiz), 2 VSS (power), 3 DI (in), 4 CLK (in), 5 CS (in), 6 VCC (power)

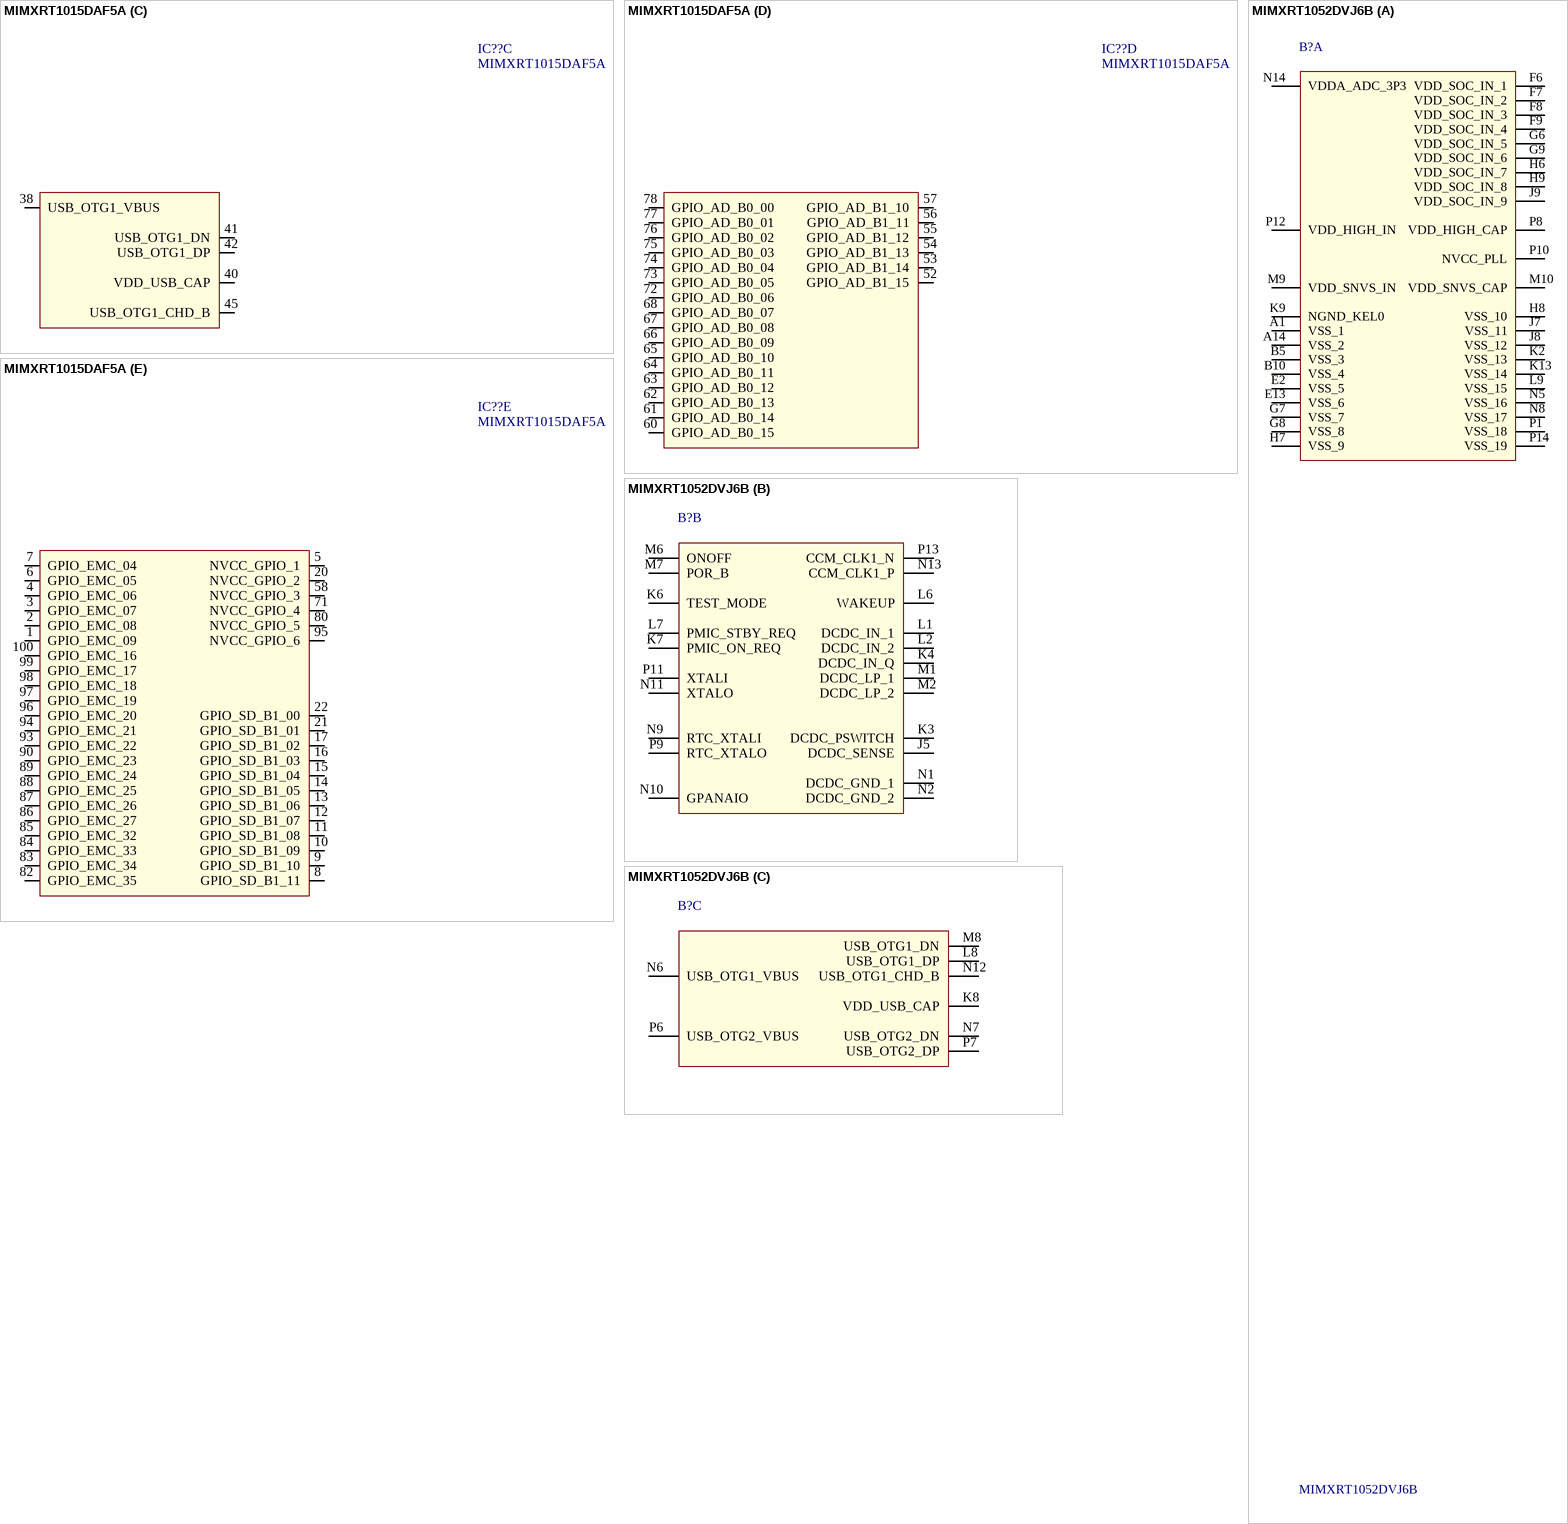
[diagram p3: symbols MIMXRT1015DAF5A to MIMXRT1052DVJ6B]

## MIMXRT1015DAF5A
designator IC??
IC MCU 32BIT EXT MEM 100LQFP; Manufacturer: NXP USA Inc.; Datasheet Link: http://www.nxp.com/docs/en/data-sheet/IMXRT1015CEC.pdf; Height: 1.7mm; Manufacturer Part Number: MIMXRT1015DAF5A; Supplier Part Number 1: 568-15304-ND; Arrow Price/Stock: https://www.arrow.com/en/products/mimxrt1015daf5a/nxp-semiconductors; Mouser Part Number: 771-MIMXRT1015DAF5A; Mouser Price/Stock: https://www.mouser.co.uk/ProductDetail/NXP-Semiconductors/MIMXRT1015DAF5A?qs=l7cgNqFNU1gQoakYaChhYw%3D%3D; Supplier 1: Digi-Key
footprint LQFP-100
part A pins: 18 VDD_SOC_IN_1, 19 VSS_1, 28 VDD_SOC_IN_2, 29 VSS_2, 34 VDD_SNVS_IN, 35 VDD_SNVS_CAP, 39 VSS_3, 43 NGND_KEL0, 44 VDD_HIGH_CAP, 48 VDD_HIGH_IN, 49 VSS_4, 50 NVCC_PLL, 51 VDDA_ADC_3P3, 59 VSS_5, 69 VDD_SOC_IN_3, 70 VSS_6, 79 VSS_7, 81 VDD_SOC_IN_4, 91 VDD_SOC_IN_5, 92 VSS_8
part B pins: 23 DCDC_IN, 24 DCDC_GND, 25 DCDC_LP, 26 DCDC_PSWITCH, 27 DCDC_IN_Q, 30 ONOFF, 31 POR_B, 32 TEST_MODE, 33 PMIC_ON_REQ, 36 RTC_XTALI, 37 RTC_XTALO, 46 XTALI, 47 XTALO
part C pins: 38 USB_OTG1_VBUS, 40 VDD_USB_CAP, 41 USB_OTG1_DN, 42 USB_OTG1_DP, 45 USB_OTG1_CHD_B
part D pins: 52 GPIO_AD_B1_15, 53 GPIO_AD_B1_14, 54 GPIO_AD_B1_13, 55 GPIO_AD_B1_12, 56 GPIO_AD_B1_11, 57 GPIO_AD_B1_10, 60 GPIO_AD_B0_15, 61 GPIO_AD_B0_14, 62 GPIO_AD_B0_13, 63 GPIO_AD_B0_12, 64 GPIO_AD_B0_11, 65 GPIO_AD_B0_10, 66 GPIO_AD_B0_09, 67 GPIO_AD_B0_08, 68 GPIO_AD_B0_07, 72 GPIO_AD_B0_06, 73 GPIO_AD_B0_05, 74 GPIO_AD_B0_04, 75 GPIO_AD_B0_03, 76 GPIO_AD_B0_02, 77 GPIO_AD_B0_01, 78 GPIO_AD_B0_00
part E pins: 1 GPIO_EMC_09, 2 GPIO_EMC_08, 3 GPIO_EMC_07, 4 GPIO_EMC_06, 5 NVCC_GPIO_1, 6 GPIO_EMC_05, 7 GPIO_EMC_04, 8 GPIO_SD_B1_11, 9 GPIO_SD_B1_10, 10 GPIO_SD_B1_09, 11 GPIO_SD_B1_08, 12 GPIO_SD_B1_07, 13 GPIO_SD_B1_06, 14 GPIO_SD_B1_05, 15 GPIO_SD_B1_04, 16 GPIO_SD_B1_03, 17 GPIO_SD_B1_02, 20 NVCC_GPIO_2, 21 GPIO_SD_B1_01, 22 GPIO_SD_B1_00, 58 NVCC_GPIO_3, 71 NVCC_GPIO_4, 80 NVCC_GPIO_5, 82 GPIO_EMC_35, 83 GPIO_EMC_34, 84 GPIO_EMC_33, 85 GPIO_EMC_32, 86 GPIO_EMC_27, 87 GPIO_EMC_26, 88 GPIO_EMC_25, 89 GPIO_EMC_24, 90 GPIO_EMC_23, 93 GPIO_EMC_22, 94 GPIO_EMC_21, 95 NVCC_GPIO_6, 96 GPIO_EMC_20, 97 GPIO_EMC_19, 98 GPIO_EMC_18, 99 GPIO_EMC_17, 100 GPIO_EMC_16

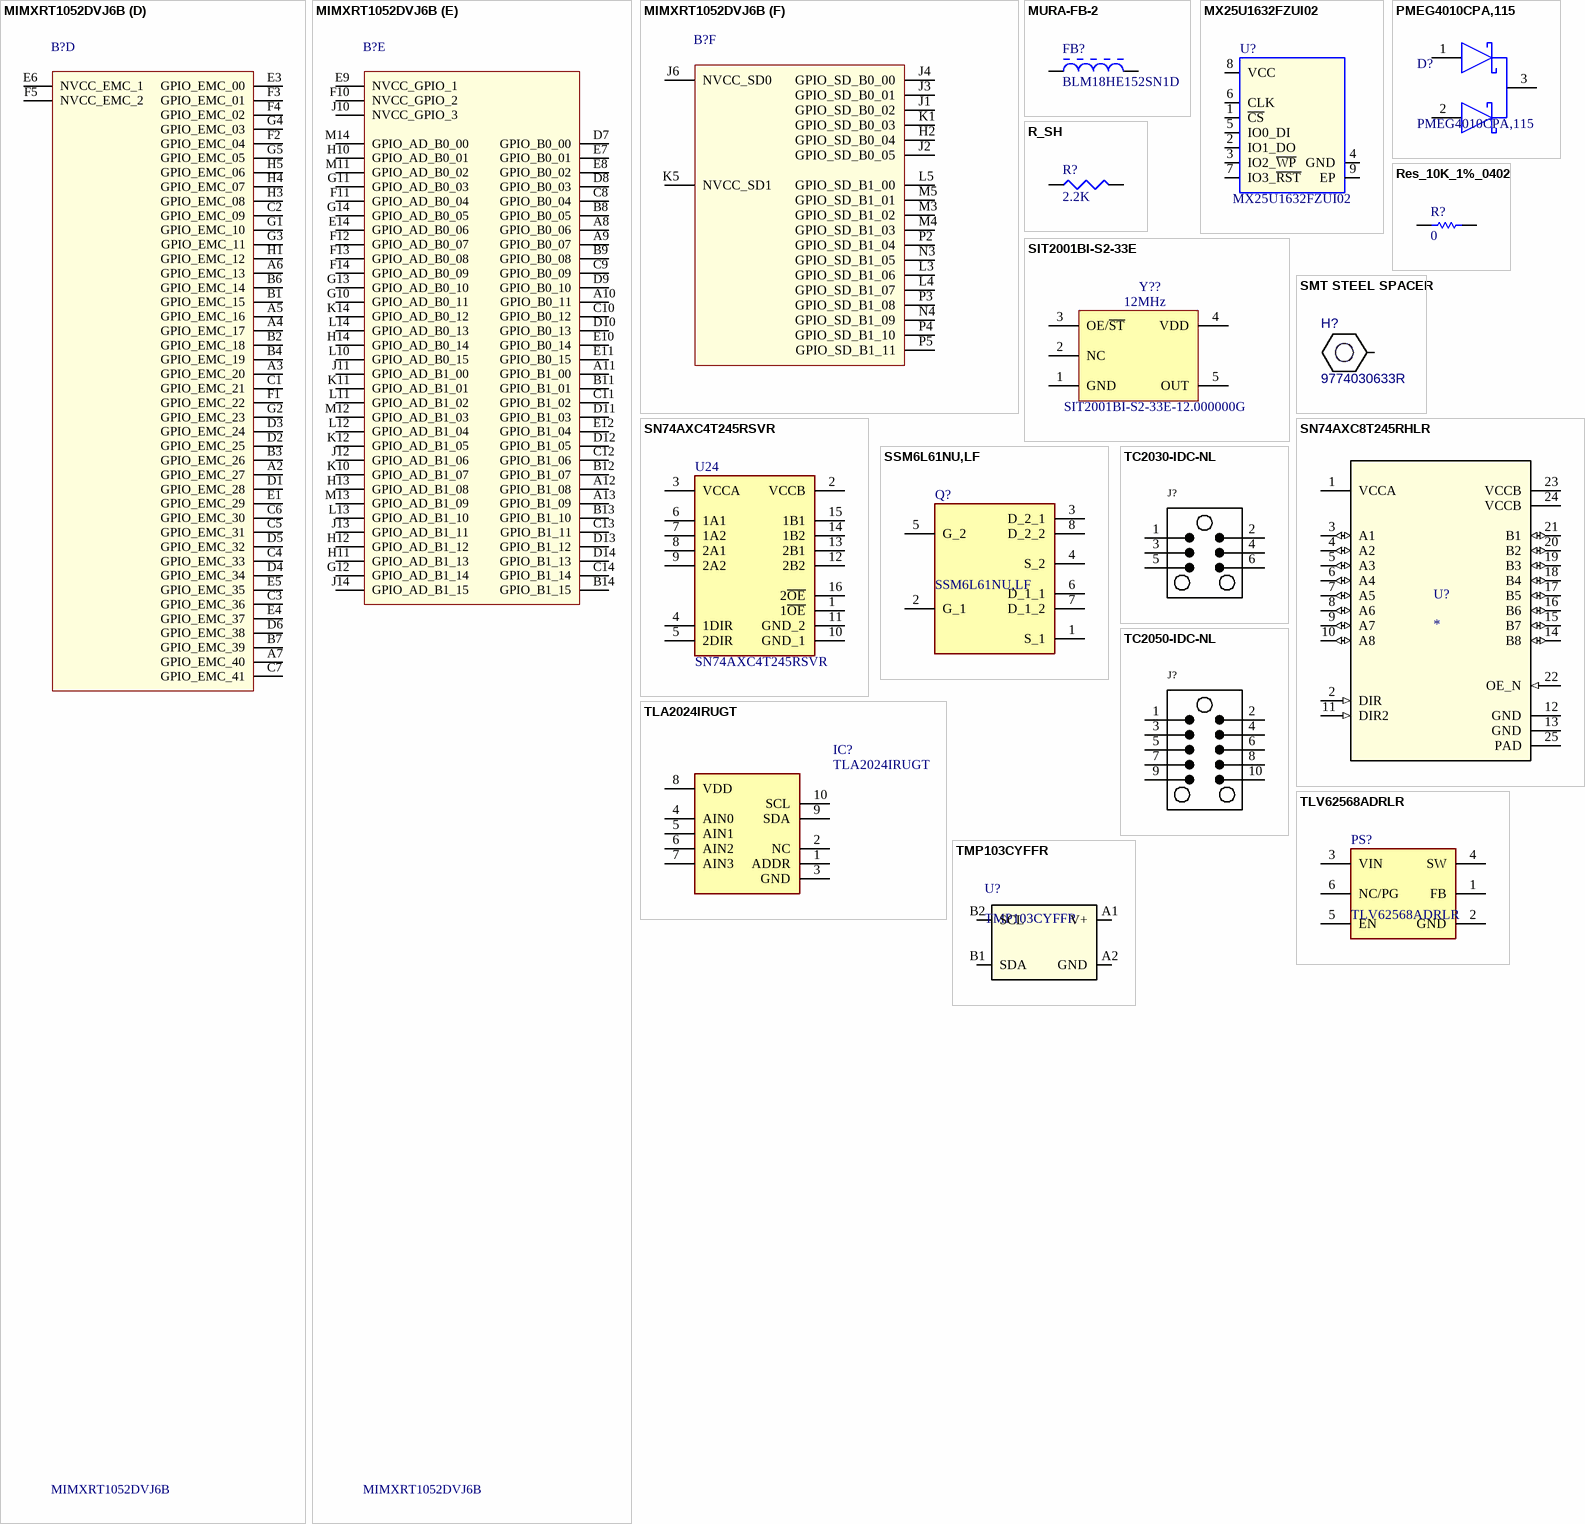
[diagram p4: symbols MIMXRT1052DVJ6B to TMP103CYFFR]

## MIMXRT1052DVJ6B
designator B?
IC MCU 32BIT EXT MEM 196MAPBGA; Manufacturer: NXP; Manufacturer Product Number: MIMXRT1052DVJ6B; Digi-Key Part Number: 568-14673-ND; Arrow Part Number: MIMXRT1052DVJ6B; Datasheet Link: http://www.nxp.com/docs/en/data-sheet/IMXRT1050CEC.pdf; Height: 1.52mm
footprint BGA196C80P14X14_1200X1200X152
part A pins: A1 VSS_1, A14 VSS_2, B5 VSS_3, B10 VSS_4, E2 VSS_5, E13 VSS_6, F6 VDD_SOC_IN_1, F7 VDD_SOC_IN_2, F8 VDD_SOC_IN_3, F9 VDD_SOC_IN_4, G6 VDD_SOC_IN_5, G7 VSS_7, G8 VSS_8, G9 VDD_SOC_IN_6, H6 VDD_SOC_IN_7, H7 VSS_9, H8 VSS_10, H9 VDD_SOC_IN_8, J7 VSS_11, J8 VSS_12, J9 VDD_SOC_IN_9, K2 VSS_13, K9 NGND_KEL0, K13 VSS_14, L9 VSS_15, M9 VDD_SNVS_IN, M10 VDD_SNVS_CAP, N5 VSS_16, N8 VSS_17, N14 VDDA_ADC_3P3, P1 VSS_18, P8 VDD_HIGH_CAP, P10 NVCC_PLL, P12 VDD_HIGH_IN, P14 VSS_19
part B pins: J5 DCDC_SENSE, K3 DCDC_PSWITCH, K4 DCDC_IN_Q, K6 TEST_MODE, K7 PMIC_ON_REQ, L1 DCDC_IN_1, L2 DCDC_IN_2, L6 WAKEUP, L7 PMIC_STBY_REQ, M1 DCDC_LP_1, M2 DCDC_LP_2, M6 ONOFF, M7 POR_B, N1 DCDC_GND_1, N2 DCDC_GND_2, N9 RTC_XTALI, N10 GPANAIO, N11 XTALO, N13 CCM_CLK1_P, P9 RTC_XTALO, P11 XTALI, P13 CCM_CLK1_N
part C pins: K8 VDD_USB_CAP, L8 USB_OTG1_DP, M8 USB_OTG1_DN, N6 USB_OTG1_VBUS, N7 USB_OTG2_DN, N12 USB_OTG1_CHD_B, P6 USB_OTG2_VBUS, P7 USB_OTG2_DP
part D pins: A2 GPIO_EMC_27, A3 GPIO_EMC_20, A4 GPIO_EMC_17, A5 GPIO_EMC_16, A6 GPIO_EMC_13, A7 GPIO_EMC_40, B1 GPIO_EMC_15, B2 GPIO_EMC_18, B3 GPIO_EMC_26, B4 GPIO_EMC_19, B6 GPIO_EMC_14, B7 GPIO_EMC_39, C1 GPIO_EMC_21, C2 GPIO_EMC_09, C3 GPIO_EMC_36, C4 GPIO_EMC_33, C5 GPIO_EMC_31, C6 GPIO_EMC_30, C7 GPIO_EMC_41, D1 GPIO_EMC_28, D2 GPIO_EMC_25, D3 GPIO_EMC_24, D4 GPIO_EMC_34, D5 GPIO_EMC_32, D6 GPIO_EMC_38, E1 GPIO_EMC_29, E3 GPIO_EMC_00, E4 GPIO_EMC_37, E5 GPIO_EMC_35, E6 NVCC_EMC_1, F1 GPIO_EMC_22, F2 GPIO_EMC_04, F3 GPIO_EMC_01, F4 GPIO_EMC_02, F5 NVCC_EMC_2, G1 GPIO_EMC_10, G2 GPIO_EMC_23, G3 GPIO_EMC_11, G4 GPIO_EMC_03, G5 GPIO_EMC_05, H1 GPIO_EMC_12, H3 GPIO_EMC_08, H4 GPIO_EMC_07, H5 GPIO_EMC_06
part E pins: A8 GPIO_B0_06, A9 GPIO_B0_07, A10 GPIO_B0_11, A11 GPIO_B1_00, A12 GPIO_B1_08, A13 GPIO_B1_09, B8 GPIO_B0_05, B9 GPIO_B0_08, B11 GPIO_B1_01, B12 GPIO_B1_07, B13 GPIO_B1_10, B14 GPIO_B1_15, C8 GPIO_B0_04, C9 GPIO_B0_09, C10 GPIO_B0_12, C11 GPIO_B1_02, C12 GPIO_B1_06, C13 GPIO_B1_11, C14 GPIO_B1_14, D7 GPIO_B0_00, D8 GPIO_B0_03, D9 GPIO_B0_10, D10 GPIO_B0_13, D11 GPIO_B1_03, D12 GPIO_B1_05, D13 GPIO_B1_12, D14 GPIO_B1_13, E7 GPIO_B0_01, E8 GPIO_B0_02, E9 NVCC_GPIO_1, E10 GPIO_B0_14, E11 GPIO_B0_15, E12 GPIO_B1_04, E14 GPIO_AD_B0_06, F10 NVCC_GPIO_2, F11 GPIO_AD_B0_04, F12 GPIO_AD_B0_07, F13 GPIO_AD_B0_08, F14 GPIO_AD_B0_09, G10 GPIO_AD_B0_11, G11 GPIO_AD_B0_03, G12 GPIO_AD_B1_14, G13 GPIO_AD_B0_10, G14 GPIO_AD_B0_05, H10 GPIO_AD_B0_01, H11 GPIO_AD_B1_13, H12 GPIO_AD_B1_12, H13 GPIO_AD_B1_08, H14 GPIO_AD_B0_14, J10 NVCC_GPIO_3, J11 GPIO_AD_B1_00, J12 GPIO_AD_B1_06, J13 GPIO_AD_B1_11, J14 GPIO_AD_B1_15, K10 GPIO_AD_B1_07, K11 GPIO_AD_B1_01, K12 GPIO_AD_B1_05, K14 GPIO_AD_B0_12, L10 GPIO_AD_B0_15, L11 GPIO_AD_B1_02, L12 GPIO_AD_B1_04, L13 GPIO_AD_B1_10, L14 GPIO_AD_B0_13, M11 GPIO_AD_B0_02, M12 GPIO_AD_B1_03, M13 GPIO_AD_B1_09, M14 GPIO_AD_B0_00
part F pins: H2 GPIO_SD_B0_04, J1 GPIO_SD_B0_02, J2 GPIO_SD_B0_05, J3 GPIO_SD_B0_01, J4 GPIO_SD_B0_00, J6 NVCC_SD0, K1 GPIO_SD_B0_03, K5 NVCC_SD1, L3 GPIO_SD_B1_06, L4 GPIO_SD_B1_07, L5 GPIO_SD_B1_00, M3 GPIO_SD_B1_02, M4 GPIO_SD_B1_03, M5 GPIO_SD_B1_01, N3 GPIO_SD_B1_05, N4 GPIO_SD_B1_09, P2 GPIO_SD_B1_04, P3 GPIO_SD_B1_08, P4 GPIO_SD_B1_10, P5 GPIO_SD_B1_11

## MURA-FB-2
designator FB?, comment BLM18HE152SN1D
FERRITE BEAD 1.5 KOHM 0603 1LN; Manufacturer: Murata; Value: 1.5 kOhms; Supplier Part Number 1: 490-5216-1-ND; Manufacturer Part Number: BLM18HE152SN1D; Package: 0603; Supplier 1: Digi-Key; Height: 0.95mm; ComponentLink1Description: New link; ComponentLink1URL: *
footprint 0603_FB (0603 (1608) Ferrite Bead)
footprint MURA-BLM18-F-H1-CHIP-2_V (Chip Ferrite Bead, 2-Leads, Body 1.6x0.8mm, Height 0.95mm, Flow)
pins: 1, 2

## MX25U1632FZUI02
designator U?
IC Flash 16MBIT Spi Quad 8USON; Manufacturer: Macronix; Supplier 1: Digikey; Supplier Part Number 1: 1092-MX25U1632FZUI02CT-ND; Manufacturer Part Number: MX25U1632FZUI02; RoHS: No; Category: Memory; Stock: 12266; Pricing: 1=0.91, 10=0.81, 25=0.7724, 50=0.7454, 100=0.7191, 250=0.68588, 500=0.66174, 1000=0.63841, 5000=0.58725 (USD)
footprint USON2X3MM_MX25U1632
pins: 1 ~{CS}, 2 IO1_DO, 3 IO2_~{WP}, 4 GND, 5 IO0_DI, 6 CLK, 7 IO3_~{RST}, 8 VCC, 9 EP

## PMEG4010CPA,115
designator D?
Schottky Diode; Manufacturer_Name: Nexperia; Datasheet Link: https://assets.nexperia.com/documents/data-sheet/PMEG4010CPA.pdf; Manufacturer_Part_Number: PMEG4010CPA,115; Mouser Part Number: 771-PMEG4010CPA115; Mouser Price/Stock: https://www.mouser.co.uk/ProductDetail/Nexperia/PMEG4010CPA115?qs=O%2F7ihdSJpea%252BrtmRoPSGEg%3D%3D; Arrow Part Number: PMEG4010CPA,115; Arrow Price/Stock: https://www.arrow.com/en/products/pmeg4010cpa115/nexperia
footprint BC5216PAS
pins: 1 A_1, 2 A_2, 3 COM_CATHODE

## R_SH
designator R?, comment 2.2K
RESISTOR 2.2K OHM 1%
footprint RESC1608N
footprint RESC1005N
footprint RESC1005X40N
footprint R0603
pins: 1, 2

## Res_10K_1%_0402
designator R?, comment 0
RESISTOR 0 OHM 5%
footprint R0402
footprint RESC100X50X40L25N
footprint R0603
footprint 0402 (Chip Capacitor, Body 1.0x0.5mm, IPC High Density)
pins: 1, 2

## SIT2001BI-S2-33E
designator Y??, comment 12MHz  MPN: SIT2001BI-S2-33E-12.000000G
MEMS OSC XO 12.0000MHZ H/LV-CMOS; Mfg: SiTIME; Supplier PN: 1473-SIT2001BI-S2-33E-12.000000G-ND
footprint SOT23-5
pins: 1 GND, 2 NC, 3 OE/~{ST}, 4 VDD, 5 OUT

## SMT STEEL SPACER
designator H?, comment 9774030633R
SMT STEEL SPACER, M1.6 INTERNAL; Manufacturer: Würth Elektronik; PartNumber: 9774030633R; ComponentLink1Description: Datasheet Link; ComponentLink1URL: https://sps16.itg.ti.com/sites/KMS/crossdivteams/altium/docs/ComponentDatasheets/1104004000018---MAE-10.pdf; Supplier 1: Digi-Key; Supplier Part Number 1: 732-13691-2-ND
footprint 9774030633R
pins: 1

## SN74AXC4T245RSVR
designator U24
Integrated Circuit; Manufacturer_Name: Texas Instruments; Datasheet Link: http://www.ti.com/lit/gpn/SN74AXC4T245; Manufacturer_Part_Number: SN74AXC4T245RSVR; Mouser Part Number: 595-SN74AXC4T245RSVR; Mouser Price/Stock: https://www.mouser.co.uk/ProductDetail/Texas-Instruments/SN74AXC4T245RSVR?qs=l7cgNqFNU1h2hzizf0vSnA%3D%3D; Arrow Part Number: SN74AXC4T245RSVR; Arrow Price/Stock: https://www.arrow.com/en/products/sn74axc4t245rsvr/texas-instruments
footprint SN74AVC4T245RSVR
pins: 1 1~{OE}, 2 VCCB, 3 VCCA, 4 1DIR, 5 2DIR, 6 1A1, 7 1A2, 8 2A1, 9 2A2, 10 GND_1, 11 GND_2, 12 2B2, 13 2B1, 14 1B2, 15 1B1, 16 2~{OE}

## SN74AXC8T245RHLR
designator U?
No Description Available; PartNumber: SN74AXC8T245RHLR; Manufacturer: Texas Instruments; RefDes: RefDes; Type: DEV; Value: Value; Copyright: Copyright (C) 2018 Accelerated Designs. All rights reserved
footprint RHL0024A
pins: 1 VCCA (power), 2 DIR (in), 3 A1 (io), 4 A2 (io), 5 A3 (io), 6 A4 (io), 7 A5 (io), 8 A6 (io), 9 A7 (io), 10 A8 (io), 11 DIR2 (in), 12 GND (power), 13 GND (power), 14 B8 (io), 15 B7 (io), 16 B6 (io), 17 B5 (io), 18 B4 (io), 19 B3 (io), 20 B2 (io), 21 B1 (io), 22 OE_N (in), 23 VCCB (power), 24 VCCB (power), 25 PAD

## SSM6L61NU,LF
designator Q?
MOSFET (N-Channel); Manufacturer_Name: Toshiba; Datasheet Link: https://toshiba.semicon-storage.com/info/docget.jsp?did=35567&prodName=SSM6L61NU; Height: 0.8mm; Manufacturer_Part_Number: SSM6L61NU,LF; Mouser Part Number: 757-SSM6L61NULF; Mouser Price/Stock: https://www.mouser.com/Search/Refine.aspx?Keyword=757-SSM6L61NULF; Arrow Part Number: SSM6L61NU,LF; Arrow Price/Stock: https://www.arrow.com/en/products/ssm6l61nulf/toshiba
footprint SSM6N68NULF
pins: 1 S_1, 2 G_1, 3 D_2_1, 4 S_2, 5 G_2, 6 D_1_1, 7 D_1_2, 8 D_2_2

## TC2030-IDC-NL
designator J?, comment Spy-Bi-Wire Needle Adapter  (value not drawn)  (no BOM)
Distributor: DigiKey; Package: Spy-Bi-Wire Needle Adapter; Value: Spy-Bi-Wire Needle Adapter
footprint TC2030-IDC-NL (Tag-Connect 6-Pin with No Legs (PN# TC2030-IDC-NL))
pins: 1 Pin, 2 Pin, 3 Pin, 4 Pin, 5 Pin, 6 Pin

## TC2050-IDC-NL
designator J?  (value not drawn)  (no BOM)
CBL PLUG-OF-NAILS 10-PIN; Distributor: DigiKey; Package: TC2050-IDC-NL; Value: TC2050-IDC-NL; Supplier Part Number 1: TC2050-IDC-NL-ND
footprint TC2030-IDC-NL (Tag-Connect 6-Pin with No Legs (PN# TC2030-IDC-NL))
pins: 1 Pin, 2 Pin, 3 Pin, 4 Pin, 5 Pin, 6 Pin, 7 Pin, 8 Pin, 9 Pin, 10 Pin

## TLA2024IRUGT
designator IC?
Integrated Circuit; Manufacturer_Name: Texas Instruments; Datasheet Link: http://www.ti.com/lit/ds/sbas846/sbas846.pdf; Height: 0.4mm; Manufacturer_Part_Number: TLA2024IRUGT; Mouser Part Number: 595-TLA2024IRUGT; Mouser Price/Stock: https://www.mouser.co.uk/ProductDetail/Texas-Instruments/TLA2024IRUGT/?qs=chTDxNqvsylxt6cbA39OGw%3D%3D; Arrow Part Number: TLA2024IRUGT; Arrow Price/Stock: https://www.arrow.com/en/products/tla2024irugt/texas-instruments
footprint ADS1018IRUGT
pins: 1 ADDR, 2 NC, 3 GND, 4 AIN0, 5 AIN1, 6 AIN2, 7 AIN3, 8 VDD, 9 SDA, 10 SCL

## TLV62568ADRLR
designator PS?
Power Supply; Manufacturer_Name: Texas Instruments; Datasheet Link: http://www.ti.com/lit/gpn/tlv62568a; Height: 0.6mm; Manufacturer_Part_Number: TLV62568ADRLR; Mouser Part Number: 595-TLV62568ADRLR; Mouser Price/Stock: https://www.mouser.co.uk/ProductDetail/Texas-Instruments/TLV62568ADRLR?qs=MLItCLRbWswaiJ7CZkvDtQ%3D%3D; Arrow Part Number: TLV62568ADRLR; Arrow Price/Stock: https://www.arrow.com/en/products/tlv62568adrlr/texas-instruments
footprint SOTFL50P160X60-6N
pins: 1 FB, 2 GND, 3 VIN, 4 SW, 5 EN, 6 NC/PG

## TMP103CYFFR
designator U?
SENSOR DIGITAL -40C-125C 4DSBGA; PartNumber: TMP103AYFFR; Manufacturer: Texas Instruments; Digi-Key Part Number: 296-28342-2-ND; Type: DEV; Value: Value; Copyright: Copyright (C) 2018 Accelerated Designs. All rights reserved
footprint YFF0004AAAA
pins: A1 V+, A2 GND, B1 SDA, B2 SCL